# Altium footprint library ZERORULERV2.PcbLib: 78 footprints (part 1 of 5)
Each footprint in its own frame and in the unit in brackets; x right, y up, seen from the top. Pads: shape width x height; smd on the part's side, far side on the other; paste and mask are expansions set on the pad; w line width, h text height; cw(c..) or ccw(c..) is an arc to the next point about the centre after c.
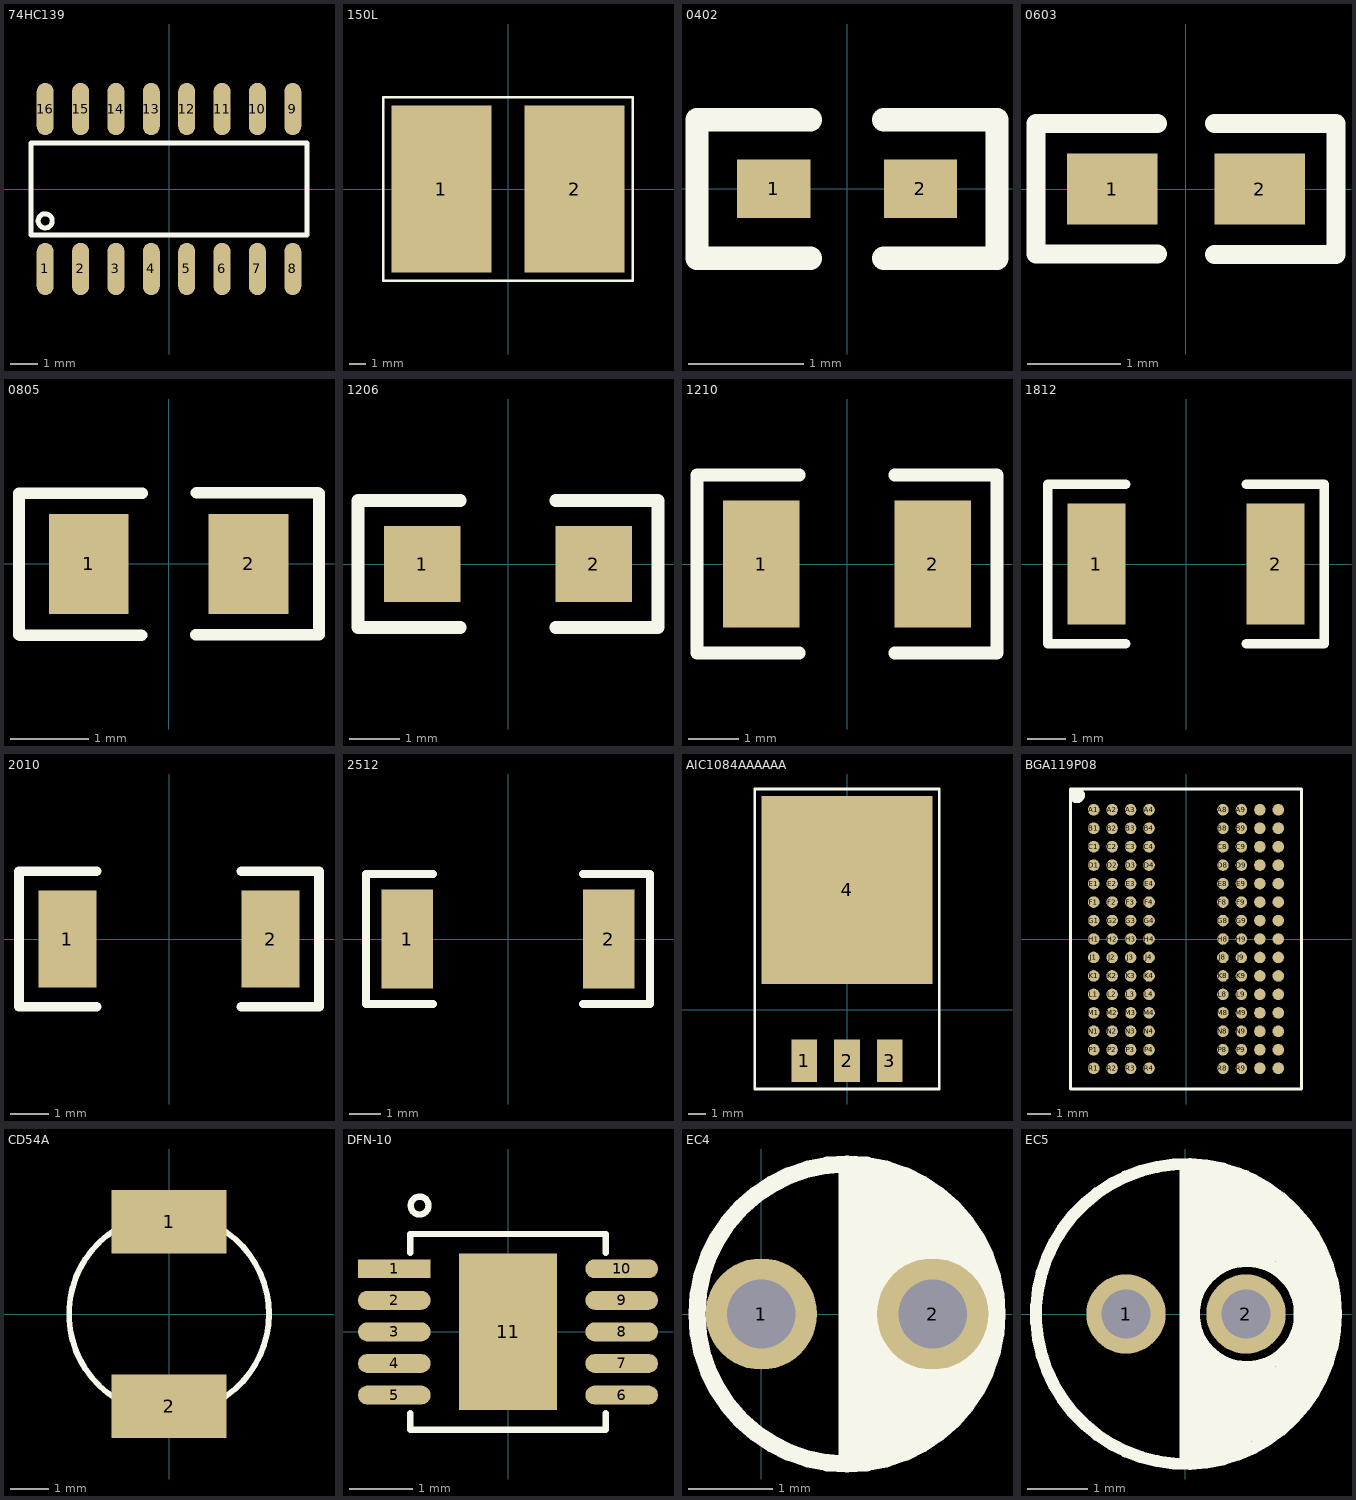
[diagram p0: the footprints below, top view; thin cyan lines are the x and y axes]

## 74HC139 [mil]
pads (16):
  oval 24x74 smd: 1(-175,-113) 2(-125,-113) 3(-75,-113) 4(-25,-113) 5(25,-113) 6(75,-113) 7(125,-113) 8(175,-113) 9(175,113) 10(125,113) 11(75,113) 12(25,113) 13(-25,113) 14(-75,113) 15(-125,113) 16(-175,113)
Top Overlay:
  circle w7: c-175,-45 r10
  lines w7: -195,-65 -195,65 195,65 195,-65 -195,-65

## 150L [mm]
pads (2):
  rect 6x10 smd: 1(-4,0) 2(4,0)
Top Overlay:
  lines w0.15: -7.498,-5.5 7.498,-5.5 ; -7.498,-5.499 -7.498,-5.5 ; -7.498,-5.499 -7.498,5.502 -7.498,5.502 7.498,5.502 7.499,5.502 7.499,-5.499 ; 7.498,-5.5 7.499,-5.499

## 0402 [mil]
pads (2):
  rect 25x20 smd: 1(-25,0) 2(25,0)
Top Overlay:
  lines w8: -12.5,-23.74 -51.19,-23.74 -51.19,23.57 -12.5,23.57 ; 12.5,-23.62 51.08,-23.62 51.08,23.48 12.5,23.48

## 0603 [mil]
pads (2):
  rect 38x30 smd: 1(-31,0) 2(31,0)
Top Overlay:
  lines w8: -12,-27.31 -63.04,-27.31 -63.04,27.53 -12,27.53 ; 12,-27.5 63.06,-27.5 63.06,27.53 12,27.53

## 0805 [mil]
pads (2):
  rect 40x50 smd: 1(-40,0) 2(40,0)
Top Overlay:
  lines w5.91: -74.89,-35.43 -74.89,35.35 ; -74.4,-35.66 -13.61,-35.66 ; -74,35.38 -13.22,35.38 ; 13.6,-35.46 74.38,-35.46 ; 13.99,35.58 74.78,35.58 ; 75.28,-35.43 75.28,35.35

## 1206 [mil]
pads (2):
  rect 60x60 smd: 1(-67.5,0) 2(67.5,0)
Top Overlay:
  lines w10: -37.5,-50 -118,-50 -118,50 -37.5,50 ; 37.5,-50 118,-50 118,50 37.5,50

## 1210 [mil]
pads (2):
  rect 60x100 smd: 1(-67.5,0) 2(67.5,0)
Top Overlay:
  lines w10: -37.5,-70 -118,-70 -118,70 -37.5,70 ; 37.5,-70 118,-70 118,70 37.5,70

## 1812 [mil]
pads (2):
  rect 60x125 smd: 1(-92.5,0) 2(92.5,0)
Top Overlay:
  lines w10: -62.5,-82.5 -143,-82.5 -143,82.5 -62.5,82.5 ; 62.5,-82.5 143,-82.5 143,82.5 62.5,82.5

## 2010 [mil]
pads (2):
  rect 60x100 smd: 1(-105,0) 2(105,0)
Top Overlay:
  lines w10: -75,-70 -155,-70 -155,70 -75,70 ; 75,-70 155,-70 155,70 75,70

## 2512 [mil]
pads (2):
  rect 65x125 smd: 1(-127.5,0) 2(127.5,0)
Top Overlay:
  lines w10: -95,-82.5 -180,-82.5 -180,82.5 -95,82.5 ; 95,-82.5 180,-82.5 180,82.5 95,82.5

## AIC1084AAAAAA [mm]
pads (4):
  rect 1.5x2.5 smd: 1(-2.5,-3) 2(0,-3) 3(2.5,-3)
  rect 10x11 smd: 4(0,7)
Top Overlay:
  lines w0.15: 5.399,-4.649 5.399,12.901 ; 5.399,-4.649 5.399,-4.649 ; 5.399,-4.649 -5.398,-4.649 -5.398,-4.649 -5.398,12.901 -5.398,12.901 5.399,12.901 ; 5.399,12.901 5.399,12.901

## BGA119P08 [mm]
height 1.3
pads (120):
  round 0.5 smd: A1(-4,5.6) A2(-3.2,5.6) A3(-2.4,5.6) A4(-1.6,5.6) A8(1.6,5.6) A9(2.4,5.6) A10(3.2,5.6) A11(4,5.6) B1(-4,4.8) B2(-3.2,4.8) B3(-2.4,4.8) B4(-1.6,4.8) B8(1.6,4.8) B9(2.4,4.8) B10(3.2,4.8) B11(4,4.8) C1(-4,4) C2(-3.2,4) C3(-2.4,4) C4(-1.6,4) C8(1.6,4) C9(2.4,4) C10(3.2,4) C11(4,4) D1(-4,3.2) D2(-3.2,3.2) D3(-2.4,3.2) D4(-1.6,3.2) D8(1.6,3.2) D9(2.4,3.2) D10(3.2,3.2) D11(4,3.2) E1(-4,2.4) E2(-3.2,2.4) E3(-2.4,2.4) E4(-1.6,2.4) E8(1.6,2.4) E9(2.4,2.4) E10(3.2,2.4) E11(4,2.4) F1(-4,1.6) F2(-3.2,1.6) F3(-2.4,1.6) F4(-1.6,1.6) F8(1.6,1.6) F9(2.4,1.6) F10(3.2,1.6) F11(4,1.6) G1(-4,0.8) G2(-3.2,0.8) G3(-2.4,0.8) G4(-1.6,0.8) G8(1.6,0.8) G9(2.4,0.8) G10(3.2,0.8) G11(4,0.8) H1(-4,0) H2(-3.2,0) H3(-2.4,0) H4(-1.6,0) H8(1.6,0) H9(2.4,0) H10(3.2,0) H11(4,0) J1(-4,-0.8) J2(-3.2,-0.8) J3(-2.4,-0.8) J4(-1.6,-0.8) J8(1.6,-0.8) J9(2.4,-0.8) J10(3.2,-0.8) J11(4,-0.8) K1(-4,-1.6) K2(-3.2,-1.6) K3(-2.4,-1.6) K4(-1.6,-1.6) K8(1.6,-1.6) K9(2.4,-1.6) K10(3.2,-1.6) K11(4,-1.6) L1(-4,-2.4) L2(-3.2,-2.4) L3(-2.4,-2.4) L4(-1.6,-2.4) L8(1.6,-2.4) L9(2.4,-2.4) L10(3.2,-2.4) L11(4,-2.4) M1(-4,-3.2) M2(-3.2,-3.2) M3(-2.4,-3.2) M4(-1.6,-3.2) M8(1.6,-3.2) M9(2.4,-3.2) M10(3.2,-3.2) M11(4,-3.2) N1(-4,-4) N2(-3.2,-4) N3(-2.4,-4) N4(-1.6,-4) N8(1.6,-4) N9(2.4,-4) N10(3.2,-4) N11(4,-4) P1(-4,-4.8) P2(-3.2,-4.8) P3(-2.4,-4.8) P4(-1.6,-4.8) P8(1.6,-4.8) P9(2.4,-4.8) P10(3.2,-4.8) P11(4,-4.8) R1(-4,-5.6) R2(-3.2,-5.6) R3(-2.4,-5.6) R4(-1.6,-5.6) R8(1.6,-5.6) R9(2.4,-5.6) R10(3.2,-5.6) R11(4,-5.6)
Top Overlay:
  circle w0.35: c-4.725,6.225 r0.165
  lines w0.128: -5,-6.5 5,-6.5 5,6.5 -5,6.5 -5,-6.5

## CD54A [mm]
pads (2):
  rect 3x1.65 smd: 1(0,2.4) 2(0,-2.4)
Top Overlay:
  circle w0.15: c0,0 r2.6

## DFN-10 [mm]
height 1.2
pads (11):
  rect 1.15x0.3 smd: 1(-1.8,1)
  oval 1.15x0.3 smd: 2(-1.8,0.5) 3(-1.8,0) 4(-1.8,-0.5) 5(-1.8,-1) 6(1.8,-1) 7(1.8,-0.5) 8(1.8,0) 9(1.8,0.5) 10(1.8,1)
  rect 1.55x2.48 smd: 11(0,0)
Top Overlay:
  circle w0.1: c-1.4,2 r0.141
  lines w0.1: -1.55,-1.286 -1.55,-1.55 1.55,-1.55 1.55,-1.286 ; -1.55,1.254 -1.55,1.55 1.55,1.55 1.55,1.254
3D body "User Library-DFN-10.STEP": height 0.8, standoff 0, extent -1.5,-1.5 1.5,1.5

## EC4 [mil]
pads (2):
  round 52 hole 32: 1(0,0) 2(80,0)
Top Overlay:
  circle w8: c40,0 r70
  region: 40,-70 40,70 46.89,70 60.42,67.31 73.16,62.03 84.62,54.37 94.37,44.62 102.03,33.16 107.31,20.42 110,6.89 110,-6.89 107.31,-20.42 102.03,-33.16 94.37,-44.62 84.62,-54.37 73.16,-62.03 60.42,-67.31 46.89,-70
  lines w5: 40,-70 ccw(c40,0) 40,70
  lines w8: 40,-70 40,70

## EC5 [mil]
pads (2):
  round 52 hole 32: 1(-39,0) 2(39.74,0)
Top Overlay:
  circle w7.87: c0.37,0 r98.43
  circle w8: c40.35,0 r34.95
  lines w8: 0,-98 0,98 ; 1.97,-94.49 1.97,16.73 ; 7.87,15.75 7.87,96.46 ; 8.86,-95.47 8.86,-18.7 ; 15.75,27.56 15.75,94.49 ; 16.73,-94.49 16.73,-27.56 ; 22.64,-92.52 22.64,-32.48 ; 23.62,31.5 23.62,94.49 ; 27.56,-90.55 27.56,-35.43 ; 31.5,-90.55 31.5,-35.43 ; 31.5,35.43 31.5,90.55 ; 39.37,-86.61 39.37,-35.43 ; 39.37,35.43 39.37,90.55 ; 43.31,86.61 61.02,68.9 61.02,62.99 71.85,52.17 ; 47.24,-82.68 47.24,-35.43 ; 47.24,35.43 47.24,82.68 ; 55.12,-78.74 55.12,-35.43 ; 55.12,35.43 55.12,78.74 ; 60,-72 68,-64 84,-44 84,36 ; 60,72 84,40 ; 62.99,-66.93 62.99,-31.5 68.9,-25.59 ; 62.99,31.5 62.99,62.99 ; 66.93,23.62 66.93,59.06 ; 70.87,-59.06 70.87,-23.62 ; 74.8,-51.18 74.8,47.24 ; 78.74,-47.24 78.74,43.31 ; 88,-40 88,40 ; 92,-20 92,20